# Altium schematic symbol library SamacSys.SchLib: 63 symbols
Pins are listed as number, name and electrical type; pins without a type are passive.

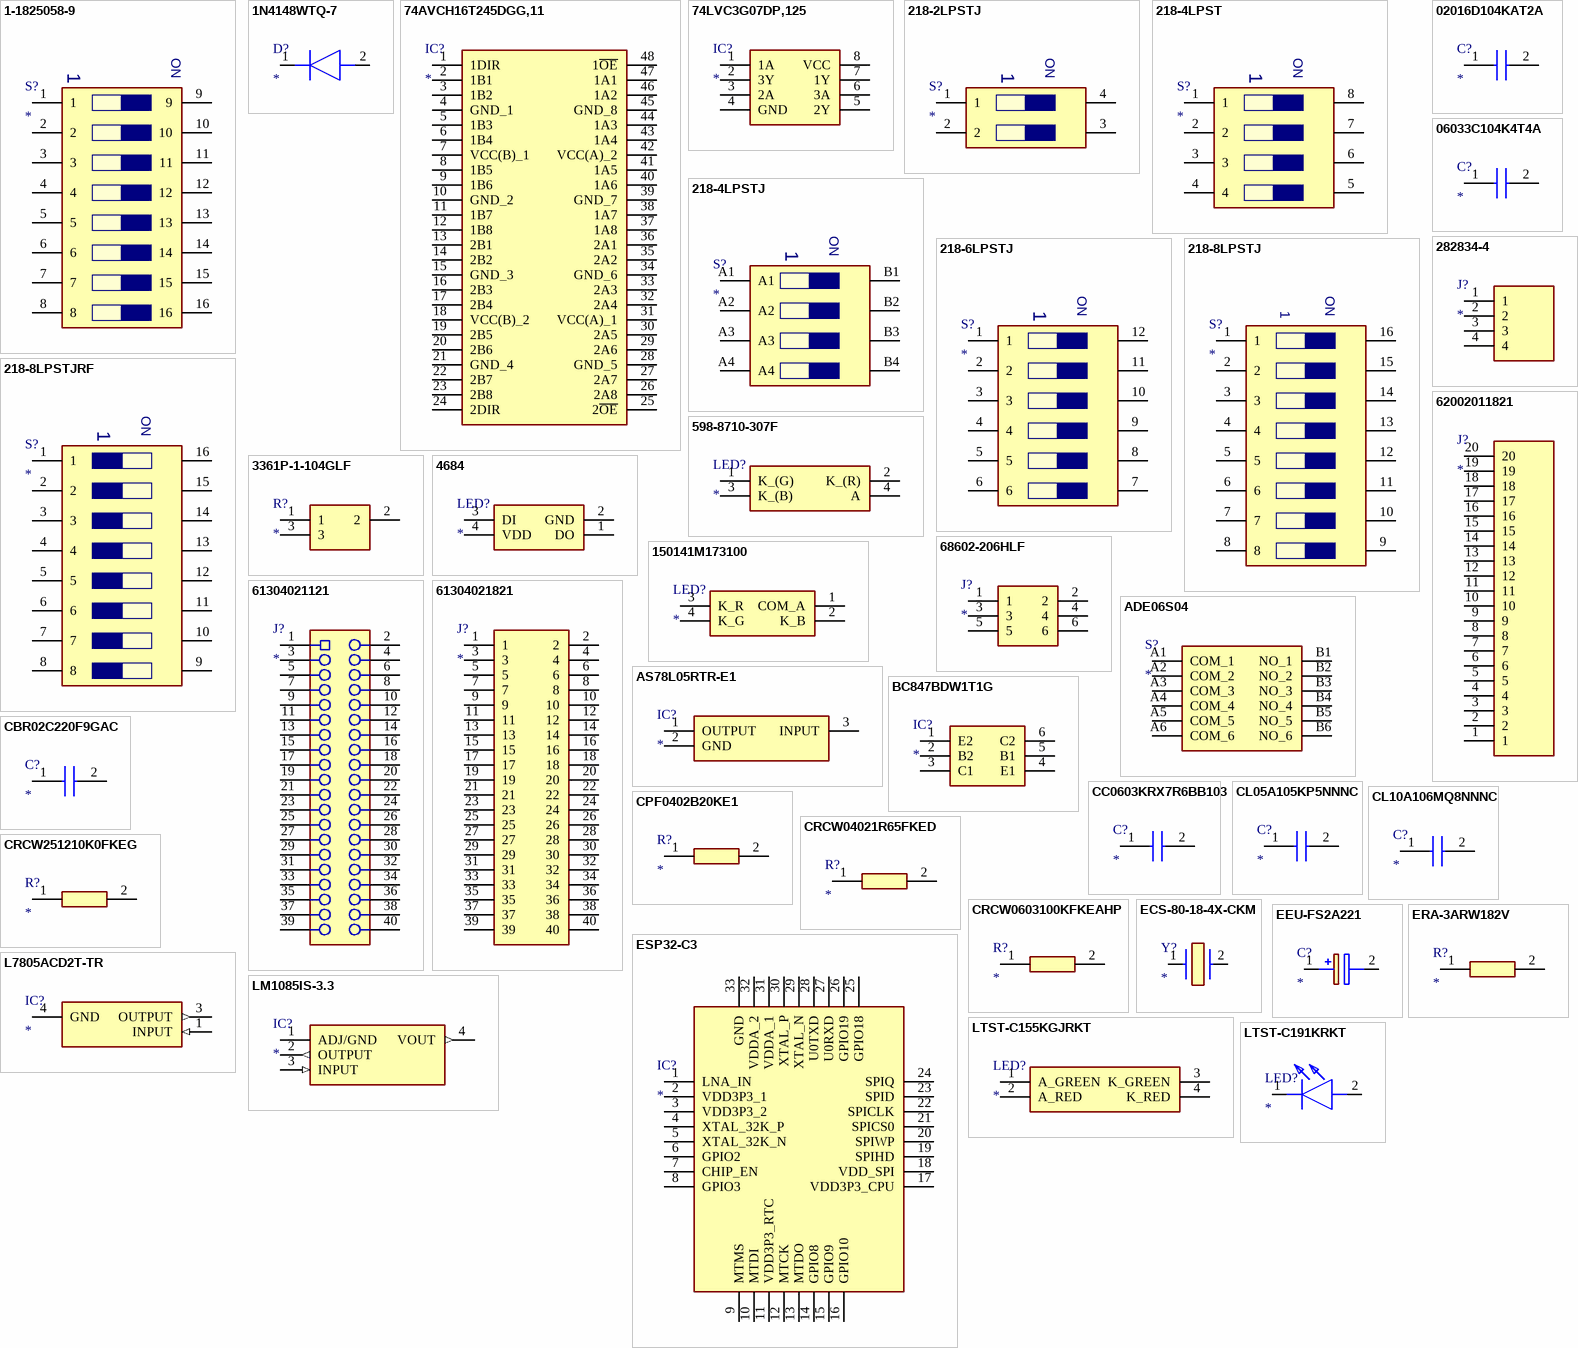
[diagram p0: symbols 1-1825058-9 to LTST-C191KRKT]

## 1-1825058-9
designator S?
Switch; Manufacturer_Name: TE Connectivity; Manufacturer_Part_Number: 1-1825058-9; Datasheet Link: http://www.te.com/commerce/DocumentDelivery/DDEController?Action=showdoc&DocId=Customer+Drawing%7F1825058%7FS4%7Fpdf%7FEnglish%7FENG_CD_1825058_S4.pdf%7F1-1825058-9; Height: 3mm; Arrow Part Number: 1-1825058-9; Arrow Price/Stock: https://www.arrow.com/en/products/1-1825058-9/te-connectivity?region=europe
footprint 118250589
pins: 1, 2, 3, 4, 5, 6, 7, 8, 9, 10, 11, 12, 13, 14, 15, 16
text: ON

## 1N4148WTQ-7
designator D?
Diode; Manufacturer_Name: Diodes Incorporated; Manufacturer_Part_Number: 1N4148WTQ-7; Datasheet Link: https://datasheet.datasheetarchive.com/originals/distributors/Datasheets_SAMA/6cd1b04b95e93ddd69dba57393c402aa.pdf; Height: 0.65mm; Mouser Part Number: 621-1N4148WTQ-7; Mouser Price/Stock: https://www.mouser.co.uk/ProductDetail/Diodes-Incorporated/1N4148WTQ-7?qs=vdQOMtKMWaCrKb90MkA6xQ%3D%3D; Arrow Part Number: 1N4148WTQ-7; Arrow Price/Stock: https://www.arrow.com/en/products/1n4148wtq-7/diodes-incorporated?region=europe
footprint SODFL1608X65N
pins: 1 K, 2 A

## 74AVCH16T245DGG,11
designator IC?
Integrated Circuit; Manufacturer_Name: Nexperia; Manufacturer_Part_Number: 74AVCH16T245DGG,11; Datasheet Link: https://assets.nexperia.com/documents/data-sheet/74AVCH16T245.pdf; Height: 1.2mm; Mouser Part Number: 771-74AVCH16T245DG11; Mouser Price/Stock: https://www.mouser.com/Search/Refine.aspx?Keyword=771-74AVCH16T245DG11
footprint SOP50P810X120-48N
pins: 1 1DIR, 2 1B1, 3 1B2, 4 GND_1, 5 1B3, 6 1B4, 7 VCC(B)_1, 8 1B5, 9 1B6, 10 GND_2, 11 1B7, 12 1B8, 13 2B1, 14 2B2, 15 GND_3, 16 2B3, 17 2B4, 18 VCC(B)_2, 19 2B5, 20 2B6, 21 GND_4, 22 2B7, 23 2B8, 24 2DIR, 25 2~{OE}, 26 2A8, 27 2A7, 28 GND_5, 29 2A6, 30 2A5, 31 VCC(A)_1, 32 2A4, 33 2A3, 34 GND_6, 35 2A2, 36 2A1, 37 1A8, 38 1A7, 39 GND_7, 40 1A6, 41 1A5, 42 VCC(A)_2, 43 1A4, 44 1A3, 45 GND_8, 46 1A2, 47 1A1, 48 1~{OE}

## 74LVC3G07DP,125
designator IC?
Integrated Circuit; Manufacturer_Name: Nexperia; Manufacturer_Part_Number: 74LVC3G07DP,125; Datasheet Link: https://assets.nexperia.com/documents/data-sheet/74LVC3G07.pdf; Height: 1.1mm; Mouser Part Number: 771-74LVC3G07DP-G; Mouser Price/Stock: https://www.mouser.co.uk/ProductDetail/Nexperia/74LVC3G07DP125?qs=me8TqzrmIYXM25jpSFl3Hg%3D%3D; Arrow Part Number: 74LVC3G07DP,125; Arrow Price/Stock: https://www.arrow.com/en/products/74lvc3g07dp125/nexperia?region=nac
footprint SOP65P400X110-8N
pins: 1 1A, 2 3Y, 3 2A, 4 GND, 5 2Y, 6 3A, 7 1Y, 8 VCC

## 218-2LPSTJ
designator S?
Switch; Manufacturer_Name: CTS; Manufacturer_Part_Number: 218-2LPSTJ; Datasheet Link: https://www.ctscorp.com/wp-content/uploads/218.pdf; Height: 2.7mm; Mouser Part Number: 774-2182LPSTJ; Mouser Price/Stock: https://www.mouser.co.uk/ProductDetail/CTS-Electronic-Components/218-2LPSTJ?qs=qNzHFtQhdJ8h31nbRNBSWA%3D%3D; Arrow Part Number: 218-2LPSTJ; Arrow Price/Stock: https://www.arrow.com/en/products/218-2lpstj/cts
footprint 2182LPSTJ
pins: 1, 2, 3, 4
text: ON

## 218-4LPST
designator S?
Switch; Manufacturer_Name: CTS; Manufacturer_Part_Number: 218-4LPST; Datasheet Link: https://www.ctscorp.com/wp-content/uploads/218.pdf; Height: 2.65mm; Mouser Part Number: 774-2184LPST; Mouser Price/Stock: https://www.mouser.co.uk/ProductDetail/CTS-Electronic-Components/218-4LPST?qs=qNzHFtQhdJ%252BULzIpw6MWbA%3D%3D; Arrow Part Number: 218-4LPST; Arrow Price/Stock: https://www.arrow.com/en/products/218-4lpst/cts
footprint SOIC127P844X265-8N
pins: 1, 2, 3, 4, 5, 6, 7, 8
text: ON

## 218-4LPSTJ
designator S?
Switch; Manufacturer_Name: CTS; Manufacturer_Part_Number: 218-4LPSTJ; Datasheet Link: https://www.ctscorp.com/wp-content/uploads/218.pdf; Height: 2.7mm; Mouser Part Number: 774-218-4LPSTJ; Mouser Price/Stock: https://www.mouser.co.uk/ProductDetail/CTS-Electronic-Components/218-4LPSTJ?qs=qNzHFtQhdJ%2Frpuf7cnHHWA%3D%3D; Arrow Part Number: 218-4LPSTJ; Arrow Price/Stock: https://www.arrow.com/en/products/218-4lpstj/cts
footprint 2184LPSTJ
pins: A1, A2, A3, A4, B1, B2, B3, B4
text: ON; 1

## 218-6LPSTJ
designator S?
Switch; Manufacturer_Name: CTS; Manufacturer_Part_Number: 218-6LPSTJ; Datasheet Link: https://www.ctscorp.com/wp-content/uploads/218.pdf; Height: 2.7mm; Mouser Part Number: 774-2186LPSTJ; Mouser Price/Stock: https://www.mouser.co.uk/ProductDetail/CTS-Electronic-Components/218-6LPSTJ?qs=hDoPxpGr7lflvoQJzlrOfA%3D%3D; Arrow Part Number: 218-6LPSTJ; Arrow Price/Stock: https://www.arrow.com/en/products/218-6lpstj/cts
footprint 2186LPSTJ
pins: 1, 2, 3, 4, 5, 6, 7, 8, 9, 10, 11, 12
text: ON

## 218-8LPSTJ
designator S?
Switch; Manufacturer_Name: CTS; Manufacturer_Part_Number: 218-8LPSTJ; Datasheet Link: https://www.ctscorp.com/wp-content/uploads/218.pdf; Height: 2.7mm; Mouser Part Number: 774-2188LPSTJ; Mouser Price/Stock: https://www.mouser.co.uk/ProductDetail/CTS-Electronic-Components/218-8LPSTJ?qs=hDoPxpGr7lfoBDyeqUpd9g%3D%3D; Arrow Part Number: 218-8LPSTJ; Arrow Price/Stock: https://www.arrow.com/en/products/218-8lpstj/cts
footprint 2188LPSTJ
pins: 1, 2, 3, 4, 5, 6, 7, 8, 9, 10, 11, 12, 13, 14, 15, 16
text: ON

## 218-8LPSTJRF
designator S?
Switch; Manufacturer_Name: CTS; Manufacturer_Part_Number: 218-8LPSTJ; Datasheet Link: https://www.ctscorp.com/wp-content/uploads/218.pdf; Height: 2.7mm; Mouser Part Number: 774-2188LPSTJ; Mouser Price/Stock: https://www.mouser.co.uk/ProductDetail/CTS-Electronic-Components/218-8LPSTJ?qs=hDoPxpGr7lfoBDyeqUpd9g%3D%3D; Arrow Part Number: 218-8LPSTJ; Arrow Price/Stock: https://www.arrow.com/en/products/218-8lpstj/cts
footprint 2188LPSTJ
pins: 1, 2, 3, 4, 5, 6, 7, 8, 9, 10, 11, 12, 13, 14, 15, 16
text: ON

## 598-8710-307F
designator LED?
LED; Manufacturer_Name: Dialight; Manufacturer_Part_Number: 598-8710-307F; Datasheet Link: https://componentsearchengine.com/Datasheets/1/598-8710-307F.pdf; Height: 0.7mm; Mouser Part Number: 645-598-8710-307F; Mouser Price/Stock: https://www.mouser.co.uk/ProductDetail/Dialight/598-8710-307F?qs=7JStj%2FjQ2SEVuA2%252BXFDX5Q%3D%3D; Arrow Part Number: 598-8710-307F; Arrow Price/Stock: https://www.arrow.com/en/products/598-8710-307f/dialight
footprint 5988710307F
pins: 1 K_(G), 2 K_(R), 3 K_(B), 4 A

## 02016D104KAT2A
designator C?
Capacitor; Manufacturer_Name: Kyocera AVX; Manufacturer_Part_Number: 02016D104KAT2A; Datasheet Link: http://www.mouser.com/catalog/supplier/library/pdf/AVXSurfaceMountCeramic.pdf; Height: 0.33mm; Mouser Part Number: 581-02016D104KAT2A; Mouser Price/Stock: https://www.mouser.co.uk/ProductDetail/AVX/02016D104KAT2A?qs=PN7sAUOUrntlfwxbZzo6OQ%3D%3D; Arrow Part Number: 02016D104KAT2A; Arrow Price/Stock: https://www.arrow.com/en/products/02016d104kat2a/avx?region=europe
footprint CAPC0603X33N
pins: 1, 2

## 3361P-1-104GLF
designator R?
Resistor; Manufacturer_Name: Bourns; Manufacturer_Part_Number: 3361P-1-104GLF; Datasheet Link: http://www.farnell.com/datasheets/1846252.pdf; Mouser Part Number: 652-3361P-1-104GLF; Mouser Price/Stock: https://www.mouser.co.uk/ProductDetail/Bourns/3361P-1-104GLF?qs=6dLjGpWcMUUsyFm0ilzttQ%3D%3D; Arrow Part Number: 3361P-1-104GLF; Arrow Price/Stock: https://www.arrow.com/en/products/3361p-1-104glf/bourns?region=nac
footprint 3361P_1
pins: 1, 2, 3

## 4684
designator LED?
LED; Manufacturer_Name: Adafruit; Manufacturer_Part_Number: 4684; Datasheet Link: https://cdn-shop.adafruit.com/product-files/4684/4684_WS2812B-2020_V1.3_EN.pdf; Height: 0.84mm; Mouser Part Number: 485-4684; Mouser Price/Stock: https://www.mouser.co.uk/ProductDetail/Adafruit/4684?qs=DPoM0jnrROWIv9%2FMCIm5vw%3D%3D; Arrow Part Number: 4684; Arrow Price/Stock: https://www.arrow.com/en/products/4684/adafruit-industries?region=nac
footprint 4684
pins: 1 DO, 2 GND, 3 DI, 4 VDD

## 06033C104K4T4A
designator C?
Capacitor; Manufacturer_Name: Kyocera AVX; Manufacturer_Part_Number: 06033C104K4T4A; Datasheet Link: https://componentsearchengine.com/Datasheets/1/06031A100FAT2A.pdf; Height: 0.9mm; Mouser Part Number: 581-06033C104K4T4A; Mouser Price/Stock: https://www.mouser.co.uk/ProductDetail/AVX/06033C104K4T4A/?qs=614pG937DPAFgTgznm85Tw%3D%3D; Arrow Part Number: 06033C104K4T4A; Arrow Price/Stock: https://www.arrow.com/en/products/06033c104k4t4a/avx
footprint CAPC1608X90N
pins: 1, 2

## 68602-206HLF
designator J?
Connector; Manufacturer_Name: Amphenol Communications Solutions; Manufacturer_Part_Number: 68602-206HLF; Datasheet Link: https://cdn.amphenol-cs.com/media/wysiwyg/files/drawing/67996.pdf; Height: 8.58mm
footprint 68602206HLF
pins: 1, 2, 3, 4, 5, 6

## 150141M173100
designator LED?
LED; Manufacturer_Name: Wurth Elektronik; Manufacturer_Part_Number: 150141M173100; Datasheet Link: https://www.mouser.de/datasheet/2/445/150141M173100-1714646.pdf; Height: 2.1mm; Mouser Part Number: 710-150141M173100; Mouser Price/Stock: https://www.mouser.co.uk/ProductDetail/Wurth-Elektronik/150141M173100?qs=2kOmHSv6VfT%2Fmnpysgc7Ng%3D%3D
footprint 150141M173100
pins: 1 COM_A, 2 K_B, 3 K_R, 4 K_G

## 282834-4
designator J?
Connector; Manufacturer_Name: TE Connectivity; Manufacturer_Part_Number: 282834-4; Datasheet Link: https://www.te.com/commerce/DocumentDelivery/DDEController?Action=srchrtrv&DocNm=1-1773458-1_EURO_STYLE_QRG&DocType=Data%20Sheet&DocLang=English&PartCntxt=282834-4&DocFormat=pdf; Height: 10.3mm; Mouser Part Number: 571-282834-4; Mouser Price/Stock: https://www.mouser.co.uk/ProductDetail/TE-Connectivity/282834-4?qs=A%252Bip%252BNCYi6Pqom9P%2FaHyRQ%3D%3D; Arrow Part Number: 282834-4; Arrow Price/Stock: https://www.arrow.com/en/products/282834-4/te-connectivity?region=europe
footprint 2828344
pins: 1, 2, 3, 4

## 61304021121
designator J?
Connector; Manufacturer_Name: Wurth Elektronik; Manufacturer_Part_Number: 61304021121; Datasheet Link: https://katalog.we-online.com/em/datasheet/6130xx21121.pdf; Height: 8.69mm; Mouser Part Number: 710-61304021121; Mouser Price/Stock: https://www.mouser.co.uk/ProductDetail/Wurth-Elektronik/61304021121?qs=PhR8RmCirEYWKI5WqdDUyg%3D%3D
footprint HDRV40W64P254X254_2X20_5080X508X869P
pins: 1, 2, 3, 4, 5, 6, 7, 8, 9, 10, 11, 12, 13, 14, 15, 16, 17, 18, 19, 20, 21, 22, 23, 24, 25, 26, 27, 28, 29, 30, 31, 32, 33, 34, 35, 36, 37, 38, 39, 40

## 61304021821
designator J?
Connector; Manufacturer_Name: Wurth Elektronik; Manufacturer_Part_Number: 61304021821; Datasheet Link: https://componentsearchengine.com/Datasheets/1/61304021821.pdf; Height: 8.6mm; Mouser Part Number: 710-61304021821; Mouser Price/Stock: https://www.mouser.co.uk/ProductDetail/Wurth-Elektronik/61304021821?qs=bZr6mbWTK5mzEvTTGhcEyQ%3D%3D
footprint RHDR40W97P254X254_2X20_5130X508X860P
pins: 1, 2, 3, 4, 5, 6, 7, 8, 9, 10, 11, 12, 13, 14, 15, 16, 17, 18, 19, 20, 21, 22, 23, 24, 25, 26, 27, 28, 29, 30, 31, 32, 33, 34, 35, 36, 37, 38, 39, 40

## 62002011821
designator J?
Connector; Manufacturer_Name: Wurth Elektronik; Manufacturer_Part_Number: 62002011821; Datasheet Link: https://www.we-online.com/components/products/datasheet/62002011821.pdf; Height: 4.55mm; Mouser Part Number: 710-62002011821; Mouser Price/Stock: https://www.mouser.co.uk/ProductDetail/Wurth-Elektronik/62002011821?qs=7D1LtPJG0i1FDWD%2FgiqVPA%3D%3D
footprint 62002011821
pins: 1, 2, 3, 4, 5, 6, 7, 8, 9, 10, 11, 12, 13, 14, 15, 16, 17, 18, 19, 20

## ADE06S04
designator S?
Switch; Manufacturer_Name: TE Connectivity; Manufacturer_Part_Number: ADE06S04; Datasheet Link: https://www.te.com/commerce/DocumentDelivery/DDEController?Action=showdoc&DocId=Customer+Drawing%7F1825058%7FT1%7Fpdf%7FEnglish%7FENG_CD_1825058_T1.pdf%7F1-1825058-3; Height: 5.8mm; Mouser Part Number: 506-ADE06S04; Mouser Price/Stock: https://www.mouser.com/Search/Refine.aspx?Keyword=506-ADE06S04; Arrow Part Number: ADE06S04; Arrow Price/Stock: https://www.arrow.com/en/products/ade06s04/te-connectivity
footprint ADE06S04
pins: A1 COM_1, A2 COM_2, A3 COM_3, A4 COM_4, A5 COM_5, A6 COM_6, B1 NO_1, B2 NO_2, B3 NO_3, B4 NO_4, B5 NO_5, B6 NO_6

## AS78L05RTR-E1
designator IC?
Integrated Circuit; Manufacturer_Name: Diodes Inc.; Manufacturer_Part_Number: AS78L05RTR-E1; Datasheet Link: https://www.diodes.com/assets/Datasheets/AS78Lxx.pdf; Mouser Part Number: 621-AS78L05RTR-E1; Mouser Price/Stock: https://www.mouser.co.uk/ProductDetail/Diodes-Incorporated/AS78L05RTR-E1?qs=FKu9oBikfSksfBIasZ7FtQ%3D%3D; Arrow Part Number: AS78L05RTR-E1; Arrow Price/Stock: https://www.arrow.com/en/products/as78l05rtr-e1/diodes-incorporated?region=nac
footprint DIODES_SOT-89
pins: 1 OUTPUT, 2 GND, 3 INPUT

## BC847BDW1T1G
designator IC?
Integrated Circuit; Manufacturer_Name: onsemi; Manufacturer_Part_Number: BC847BDW1T1G; Datasheet Link: http://www.onsemi.com/pub/Collateral/BC846BDW1T1-D.PDF; Height: 1.1mm; Mouser Part Number: 863-BC847BDW1T1G; Mouser Price/Stock: https://www.mouser.co.uk/ProductDetail/onsemi/BC847BDW1T1G?qs=vNc2DXHODiJIIkxW3oEo4A%3D%3D; Arrow Part Number: BC847BDW1T1G; Arrow Price/Stock: https://www.arrow.com/en/products/bc847bdw1t1g/on-semiconductor?region=europe
footprint SOT65P210X110-6N
pins: 1 E2, 2 B2, 3 C1, 4 E1, 5 B1, 6 C2

## CBR02C220F9GAC
designator C?
Capacitor; Manufacturer_Name: KEMET; Manufacturer_Part_Number: CBR02C220F9GAC; Datasheet Link: http://www.kemet.com/Lists/ProductCatalog/Attachments/490/KEM_C1030_CBR_SMD.pdf; Height: 0.33mm; Mouser Part Number: 80-CBR02C220F9G; Mouser Price/Stock: https://www.mouser.co.uk/ProductDetail/KEMET/CBR02C220F9GAC?qs=XxWtqqdu%2F9E54CLd2Dm1tw%3D%3D; Arrow Part Number: CBR02C220F9GAC; Arrow Price/Stock: https://www.arrow.com/en/products/cbr02c220f9gac/kemet-corporation
footprint CAPC0603X33N
pins: 1, 2

## CC0603KRX7R6BB103
designator C?
Capacitor; Manufacturer_Name: KEMET; Manufacturer_Part_Number: CC0603KRX7R6BB103; Datasheet Link: https://mouser.componentsearchengine.com/Datasheets/1/CC0603KRX7R6BB103.pdf; Height: 0.9mm; Mouser Part Number: 603-CC603KRX7R6BB103; Mouser Price/Stock: https://www.mouser.co.uk/ProductDetail/YAGEO/CC0603KRX7R6BB103?qs=Jp%252B3Pqv7Js0lWCO1g7PSqg%3D%3D; Arrow Part Number: CC0603KRX7R6BB103; Arrow Price/Stock: https://www.arrow.com/en/products/cc0603krx7r6bb103/yageo?region=nac
footprint CAPC1608X90N
pins: 1, 2

## CL05A105KP5NNNC
designator C?
Capacitor; Manufacturer_Name: SAMSUNG; Manufacturer_Part_Number: CL05A105KP5NNNC; Datasheet Link: https://www.arrow.com/en/products/cl05a105kp5nnnc/samsung-electro-mechanics; Height: 0.55mm; Mouser Part Number: 187-CL05A105KP5NNNC; Mouser Price/Stock: https://www.mouser.co.uk/ProductDetail/Samsung-Electro-Mechanics/CL05A105KP5NNNC?qs=X6jEic%2FHinBsUeNeR9HD7w%3D%3D; Arrow Part Number: CL05A105KP5NNNC; Arrow Price/Stock: https://www.arrow.com/en/products/cl05a105kp5nnnc/samsung-electro-mechanics?region=nac
footprint CAPC1005X55N
pins: 1, 2

## CL10A106MQ8NNNC
designator C?
Capacitor; Manufacturer_Name: SAMSUNG; Manufacturer_Part_Number: CL10A106MQ8NNNC; Datasheet Link: http://uk.rs-online.com/web/p/products/7664718; Height: 0.9mm; Mouser Part Number: 187-CL10A106MQ8NNNC; Mouser Price/Stock: https://www.mouser.co.uk/ProductDetail/Samsung-Electro-Mechanics/CL10A106MQ8NNNC?qs=349EhDEZ59qlB6a%2FjjeGAg%3D%3D; Arrow Part Number: CL10A106MQ8NNNC; Arrow Price/Stock: https://www.arrow.com/en/products/cl10a106mq8nnnc/samsung-electro-mechanics?region=europe
footprint CAPC1608X90N
pins: 1, 2

## CPF0402B20KE1
designator R?
Resistor; Manufacturer_Name: TE Connectivity; Manufacturer_Part_Number: CPF0402B20KE1; Datasheet Link: https://www.te.com/commerce/DocumentDelivery/DDEController?Action=srchrtrv&DocNm=8-1773459-4_ELEVATOR_ESCALATOR_SOLUTIONS&DocType=Data%20Sheet&DocLang=English&PartCntxt=8-1879208-0&DocFormat=pdf; Height: 0.35mm; Mouser Part Number: 279-CPF0402B20KE1; Mouser Price/Stock: https://www.mouser.com/Search/Refine.aspx?Keyword=279-CPF0402B20KE1; Arrow Part Number: CPF0402B20KE1; Arrow Price/Stock: https://www.arrow.com/en/products/cpf0402b20ke1/te-connectivity
footprint RESC1005X35N
pins: 1, 2

## CRCW04021R65FKED
designator R?
Resistor; Manufacturer_Name: Vishay; Manufacturer_Part_Number: CRCW04021R65FKED; Datasheet Link: http://www.vishay.com/docs/20035/dcrcwe3.pdf; Height: 0.4mm; Mouser Part Number: 71-CRCW04021R65FKED; Mouser Price/Stock: https://www.mouser.co.uk/ProductDetail/Vishay-Dale/CRCW04021R65FKED?qs=6S5Watp5UnI10KqDFh4G%2FA%3D%3D
footprint RESC1005X40N
pins: 1, 2

## CRCW251210K0FKEG
designator R?
Resistor; Manufacturer_Name: Vishay; Manufacturer_Part_Number: CRCW251210K0FKEG; Datasheet Link: http://www.vishay.com/docs/20035/dcrcwe3.pdf; Height: 0.7mm; Mouser Part Number: 71-CRCW2512-10K-E3; Mouser Price/Stock: https://www.mouser.co.uk/ProductDetail/Vishay-Dale/CRCW251210K0FKEG?qs=VTHkDwr%2FZpmwyghf7JbYhA%3D%3D; Arrow Part Number: CRCW251210K0FKEG; Arrow Price/Stock: https://www.arrow.com/en/products/crcw251210k0fkeg/vishay
footprint RESC6332X70N
pins: 1, 2

## CRCW0603100KFKEAHP
designator R?
Resistor; Manufacturer_Name: Vishay; Manufacturer_Part_Number: CRCW0603100KFKEAHP; Datasheet Link: http://uk.rs-online.com/web/p/products/1823583; Height: 0.55mm; Mouser Part Number: 71-CRCW0603100KFKEAH; Mouser Price/Stock: https://www.mouser.co.uk/ProductDetail/Vishay-Dale/CRCW0603100KFKEAHP?qs=niDbCuOAQ0Uxys8g4tQWNQ%3D%3D; Arrow Part Number: CRCW0603100KFKEAHP; Arrow Price/Stock: https://www.arrow.com/en/products/crcw0603100kfkeahp/vishay?region=nac
footprint RESC1608X55N
pins: 1, 2

## ECS-80-18-4X-CKM
designator Y?
Crystal or Oscillator; Manufacturer_Name: ECS; Manufacturer_Part_Number: ECS-80-18-4X-CKM; Datasheet Link: https://www.mouser.de/datasheet/2/122/hc-49usx-791.pdf; Height: 3.5mm; Mouser Part Number: 520-ECS-80-18-4X-CKM; Mouser Price/Stock: https://www.mouser.co.uk/ProductDetail/ECS/ECS-80-18-4X-CKM?qs=7MVldsJ5UazWVU6%2F43NmVA%3D%3D; Arrow Part Number: ECS-80-18-4X-CKM; Arrow Price/Stock: https://www.arrow.com/en/products/ecs-80-18-4x-ckm/ecs-international?region=nac
footprint ECS80184XCKM
pins: 1, 2

## EEU-FS2A221
designator C?
Capacitor Polarised; Manufacturer_Name: Panasonic; Manufacturer_Part_Number: EEU-FS2A221; Datasheet Link: http://industrial.panasonic.com/cdbs/www-data/pdf/RDF0000/ABA0000C1255.pdf; Height: 27mm; Mouser Part Number: 667-EEU-FS2A221; Mouser Price/Stock: https://www.mouser.co.uk/ProductDetail/Panasonic/EEU-FS2A221?qs=w%2Fv1CP2dgqpx8zM4l%252B3tVw%3D%3D; Arrow Part Number: EEU-FS2A221; Arrow Price/Stock: https://www.arrow.com/en/products/eeu-fs2a221/panasonic?region=nac
footprint CAPPRD500W65D1250H2700
pins: 1 +, 2 -

## ERA-3ARW182V
designator R?
Resistor; Manufacturer_Name: Panasonic; Manufacturer_Part_Number: ERA-3ARW182V; Datasheet Link: https://industrial.panasonic.com/cdbs/www-data/pdf/RDM0000/AOA0000C307.pdf; Height: 0.55mm
footprint ERA3AEB101V
pins: 1, 2

## ESP32-C3
designator IC?
Integrated Circuit; Manufacturer_Name: Espressif Systems; Manufacturer_Part_Number: ESP32-C3; Datasheet Link: https://www.espressif.com/sites/default/files/documentation/esp32-c3_datasheet_en.pdf; Height: 0.9mm; Mouser Part Number: 356-ESP32-C3; Mouser Price/Stock: https://www.mouser.co.uk/ProductDetail/Espressif-Systems/ESP32-C3?qs=iLbezkQI%252BsiMXe7tMG%252Bo%2FA%3D%3D
footprint QFN50P500X500X90-33N-D
pins: 1 LNA_IN, 2 VDD3P3_1, 3 VDD3P3_2, 4 XTAL_32K_P, 5 XTAL_32K_N, 6 GPIO2, 7 CHIP_EN, 8 GPIO3, 9 MTMS, 10 MTDI, 11 VDD3P3_RTC, 12 MTCK, 13 MTDO, 14 GPIO8, 15 GPIO9, 16 GPIO10, 17 VDD3P3_CPU, 18 VDD_SPI, 19 SPIHD, 20 SPIWP, 21 SPICS0, 22 SPICLK, 23 SPID, 24 SPIQ, 25 GPIO18, 26 GPIO19, 27 U0RXD, 28 U0TXD, 29 XTAL_N, 30 XTAL_P, 31 VDDA_1, 32 VDDA_2, 33 GND

## L7805ACD2T-TR
designator IC?
Integrated Circuit; Manufacturer_Name: STMicroelectronics; Manufacturer_Part_Number: L7805ACD2T-TR; Datasheet Link: http://www.st.com/web/en/resource/technical/document/datasheet/CD00000444.pdf; Mouser Part Number: 511-L7805ACD2T-TR; Mouser Price/Stock: https://www.mouser.co.uk/ProductDetail/STMicroelectronics/L7805ACD2T-TR?qs=Ctxo64yJVFuOLXlPPZdJUQ%3D%3D; Arrow Part Number: L7805ACD2T-TR; Arrow Price/Stock: https://www.arrow.com/en/products/l7805acd2t-tr/stmicroelectronics?region=europe
footprint D2PAK-STB35NF10T4
pins: 1 INPUT (in), 3 OUTPUT (out), 4 GND (power)

## LM1085IS-3.3
designator IC?
Integrated Circuit; Manufacturer_Name: Texas Instruments; Manufacturer_Part_Number: LM1085IS-3.3; Datasheet Link: http://www.ti.com/lit/ds/symlink/lm1085.pdf; Height: 4.64mm; Mouser Part Number: 926-LM1085IS-33; Mouser Price/Stock: https://www.mouser.co.uk/ProductDetail/Texas-Instruments/LM1085IS-3.3?qs=X1J7HmVL2ZEDjTmMMF7TRQ%3D%3D; Arrow Part Number: LM1085IS-3.3; Arrow Price/Stock: https://www.arrow.com/en/products/lm1085is-3.3/texas-instruments?region=nac
footprint TO254P1435X464-4N
pins: 1 ADJ/GND (power), 2 OUTPUT (out), 3 INPUT (in), 4 VOUT (out)

## LTST-C155KGJRKT
designator LED?
LED; Manufacturer_Name: Lite-On; Manufacturer_Part_Number: LTST-C155KGJRKT; Datasheet Link: http://optoelectronics.liteon.com/upload/download/ds22-2001-038/ltst-c155kgjrkt.pdf; Height: 1.2mm; Mouser Part Number: 859-LTST-C155KGJRKT; Mouser Price/Stock: https://www.mouser.co.uk/ProductDetail/Lite-On/LTST-C155KGJRKT?qs=NX60fPSeIfhjk3E6PFVC%2Fw%3D%3D; Arrow Part Number: LTST-C155KGJRKT; Arrow Price/Stock: https://www.arrow.com/en/products/ltst-c155kgjrkt/lite-on-technology?region=nac
footprint LTSTC155KGJRKT
pins: 1 A_GREEN, 2 A_RED, 3 K_GREEN, 4 K_RED

## LTST-C191KRKT
designator LED?
LED; Manufacturer_Name: Lite-On; Manufacturer_Part_Number: LTST-C191KRKT; Datasheet Link: http://www.mouser.com/ds/2/239/S_110_LTST-C191KRKT-539838.pdf; Height: 0.55mm; Mouser Part Number: 859-LTST-C191KRKT; Mouser Price/Stock: https://www.mouser.co.uk/ProductDetail/Lite-On/LTST-C191KRKT?qs=BAIUz4Y8PJBLfOhzue0q%252BA%3D%3D; Arrow Part Number: LTST-C191KRKT; Arrow Price/Stock: https://www.arrow.com/en/products/ltst-c191krkt/lite-on-technology?region=nac
footprint LEDC1608X55N
pins: 1 K, 2 A

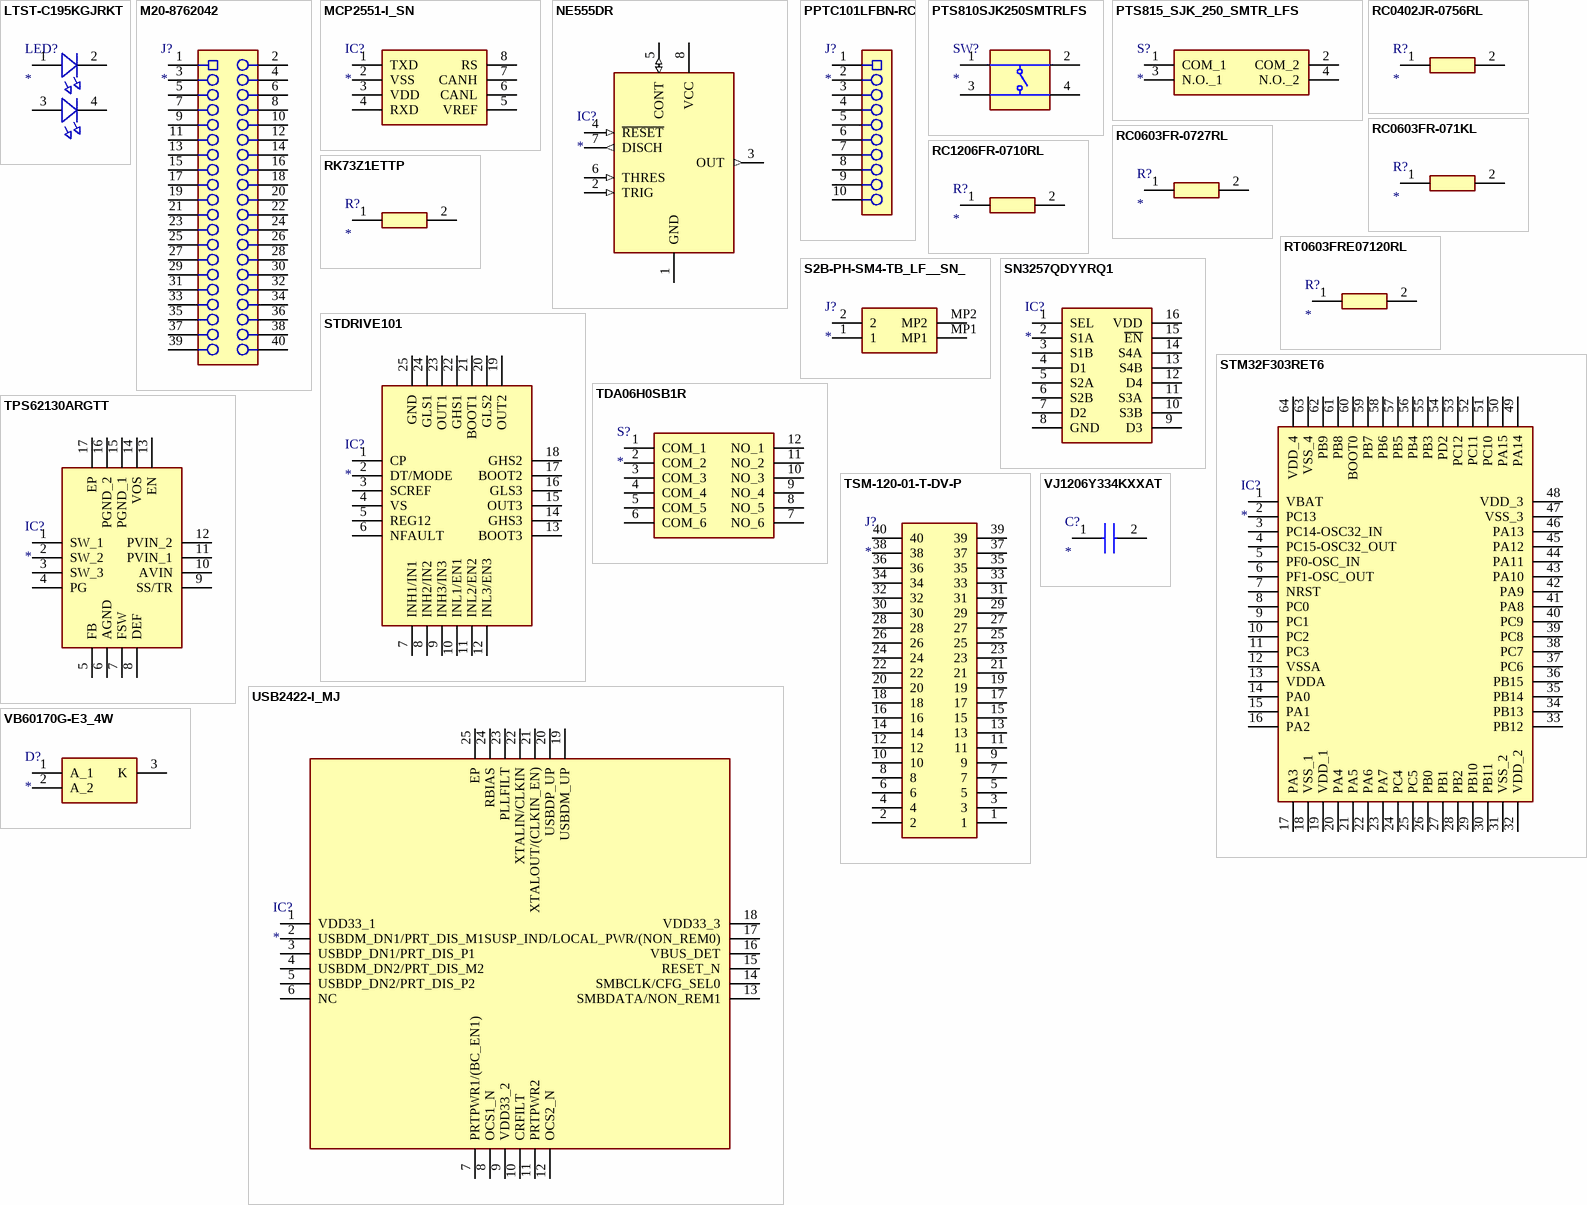
[diagram p1: symbols LTST-C195KGJRKT to VJ1206Y334KXXAT]

## LTST-C195KGJRKT
designator LED?
LED; Manufacturer_Name: Lite-On; Manufacturer_Part_Number: LTST-C195KGJRKT; Datasheet Link: https://mm.digikey.com/Volume0/opasdata/d220001/medias/docus/1134/LTST-C195KGJRKT.pdf; Height: 0.65mm; Mouser Part Number: 859-LTST-C195KGJRKT; Mouser Price/Stock: https://www.mouser.co.uk/ProductDetail/Lite-On/LTST-C195KGJRKT?qs=ohURClPaJWCkP7ius%252BRMYA%3D%3D; Arrow Part Number: LTST-C195KGJRKT; Arrow Price/Stock: https://www.arrow.com/en/products/ltst-c195kgjrkt/lite-on-technology?region=nac
footprint LTSTC195KGJRKT
pins: 1 A_1, 2 A_2, 3 K_GREEN_, 4 K_RED

## M20-8762042
designator J?
Connector; Manufacturer_Name: Harwin; Manufacturer_Part_Number: M20-8762042; Datasheet Link: https://cdn.harwin.com/pdfs/M20-876.pdf; Height: 10.01mm; Mouser Part Number: 855-M20-8762042; Mouser Price/Stock: https://www.mouser.co.uk/ProductDetail/Harwin/M20-8762042?qs=vF78I%252BjhbY%2F5WnwPzhFszw%3D%3D
footprint M208762042
pins: 1, 2, 3, 4, 5, 6, 7, 8, 9, 10, 11, 12, 13, 14, 15, 16, 17, 18, 19, 20, 21, 22, 23, 24, 25, 26, 27, 28, 29, 30, 31, 32, 33, 34, 35, 36, 37, 38, 39, 40

## MCP2551-I_SN
designator IC?
Integrated Circuit; Manufacturer_Name: Microchip; Manufacturer_Part_Number: MCP2551-I/SN; Datasheet Link: https://datasheet.datasheetarchive.com/originals/distributors/Datasheets-34/DSA-674994.pdf; Height: 1.75mm; Mouser Part Number: 579-MCP2551-I/SN; Mouser Price/Stock: https://www.mouser.co.uk/ProductDetail/Microchip-Technology/MCP2551-I-SN?qs=9y3LFqDLL8L5zFfqqxdOHg%3D%3D; Arrow Part Number: MCP2551-I/SN; Arrow Price/Stock: https://www.arrow.com/en/products/mcp2551-isn/microchip-technology?region=nac
footprint SOIC127P600X175-8N
pins: 1 TXD, 2 VSS, 3 VDD, 4 RXD, 5 VREF, 6 CANL, 7 CANH, 8 RS

## NE555DR
designator IC?
Integrated Circuit; Manufacturer_Name: Texas Instruments; Manufacturer_Part_Number: NE555DR; Datasheet Link: http://www.ti.com/lit/ds/symlink/ne555.pdf; Height: 1.75mm; Mouser Part Number: 595-NE555DR; Mouser Price/Stock: https://www.mouser.com/Search/Refine.aspx?Keyword=595-NE555DR; RS Part Number: 1218414; RS Price/Stock: http://uk.rs-online.com/web/p/products/1218414
footprint SOIC127P600X175-8N
pins: 1 GND (power), 2 TRIG (in), 3 OUT (out), 4 ~{RESET} (in), 5 CONT (io), 6 THRES (in), 7 DISCH (out), 8 VCC (power)

## PPTC101LFBN-RC
designator J?
Connector; Manufacturer_Name: Sullins; Manufacturer_Part_Number: PPTC101LFBN-RC; Datasheet Link: http://www.sullinscorp.com/drawings/78_P(N)PxCxxxLFBN-RC,_10492-H.pdf; Height: 8.5mm
footprint RHDR10W80P0X254_1X10_2590X254X850P
pins: 1, 2, 3, 4, 5, 6, 7, 8, 9, 10

## PTS810SJK250SMTRLFS
designator SW?
Switch; Manufacturer_Name: C & K COMPONENTS; Manufacturer_Part_Number: PTS810SJK250SMTRLFS; Datasheet Link: https://www.ckswitches.com/media/1476/pts810.pdf; Mouser Part Number: 611-PTS810SJK250SMTR; Mouser Price/Stock: https://www.mouser.co.uk/ProductDetail/CK/PTS810SJK250SMTRLFS?qs=UxeAxwACbqlfHzoZSrW3%2Fw%3D%3D
footprint PTS810SJG250SMTRLFS
pins: 1, 2, 3, 4

## PTS815_SJK_250_SMTR_LFS
designator S?
Switch; Manufacturer_Name: C & K COMPONENTS; Manufacturer_Part_Number: PTS815 SJK 250 SMTR LFS; Datasheet Link: https://www.mouser.com/datasheet/2/60/pts815-1535658.pdf; Height: 2mm; Mouser Part Number: 611-PTS815SJK250SMTR; Mouser Price/Stock: https://www.mouser.co.uk/ProductDetail/CK/PTS815-SJK-250-SMTR-LFS?qs=ahcBuItHZ3yETpGYMHf%2FgQ%3D%3D; Arrow Part Number: PTS815 SJK 250 SMTR LFS; Arrow Price/Stock: https://www.arrow.com/en/products/pts815-sjk-250-smtr-lfs/ck
footprint PTS815SJK250SMTRLFS
pins: 1 COM_1, 2 COM_2, 3 N.O._1, 4 N.O._2

## RC0402JR-0756RL
designator R?
Resistor; Manufacturer_Name: KEMET; Manufacturer_Part_Number: RC0402JR-0756RL; Datasheet Link: http://www.yageo.com/documents/recent/PYu-RC0402_51_RoHS_L_6_r.pdf; Height: 0.4mm; Mouser Part Number: 603-RC0402JR-0756RL; Mouser Price/Stock: http://www.mouser.com/Search/ProductDetail.aspx?qs=uM1JSSdPjOC0kaZnFPxiEA%3d%3d
footprint RESC1005X40N
pins: 1, 2

## RC0603FR-071KL
designator R?
Resistor; Manufacturer_Name: YAGEO; Manufacturer_Part_Number: RC0603FR-071KL; Datasheet Link: https://www.yageo.com/upload/media/product/productsearch/datasheet/rchip/PYu-RC_Group_51_RoHS_L_12.pdf; Height: 0.55mm; Mouser Part Number: 603-RC0603FR-071KL; Mouser Price/Stock: https://www.mouser.co.uk/ProductDetail/YAGEO/RC0603FR-071KL?qs=VU8sRB4EgwApHsk4rF%2F3zg%3D%3D; Arrow Part Number: RC0603FR-071KL; Arrow Price/Stock: https://www.arrow.com/en/products/rc0603fr-071kl/yageo?region=europe
footprint RESC1608X55N
pins: 1, 2

## RC0603FR-0727RL
designator R?
Resistor; Manufacturer_Name: KEMET; Manufacturer_Part_Number: RC0603FR-0727RL; Datasheet Link: http://www.yageo.com/documents/recent/PYu-RC0603_51_RoHS_L_v5.pdf; Height: 0.55mm; Mouser Part Number: 603-RC0603FR-0727RL; Mouser Price/Stock: https://www.mouser.co.uk/ProductDetail/Yageo/RC0603FR-0727RL?qs=diQw95jMAeO47ApX1%252BkY5g%3D%3D; Arrow Part Number: RC0603FR-0727RL; Arrow Price/Stock: https://www.arrow.com/en/products/rc0603fr-0727rl/yageo
footprint RESC1608X55N
pins: 1, 2

## RC1206FR-0710RL
designator R?
Resistor; Manufacturer_Name: KEMET; Manufacturer_Part_Number: RC1206FR-0710RL; Datasheet Link: https://www.sos.sk/productdata/35/10/4/35104/RC1206.pdf; Height: 0.65mm; Mouser Part Number: 603-RC1206FR-0710RL; Mouser Price/Stock: https://www.mouser.co.uk/ProductDetail/YAGEO/RC1206FR-0710RL?qs=%2F8M1ehdqYDBdV11LXpIrWA%3D%3D; Arrow Part Number: RC1206FR-0710RL; Arrow Price/Stock: https://www.arrow.com/en/products/rc1206fr-0710rl/yageo?region=nac
footprint RESC3116X65N
pins: 1, 2

## RK73Z1ETTP
designator R?
Resistor; Manufacturer_Name: KOA Speer; Manufacturer_Part_Number: RK73Z1ETTP; Datasheet Link: https://datasheet.datasheetarchive.com/originals/distributors/SFDatasheet-1/sf-00037722.pdf; Height: 0.4mm; Mouser Part Number: 660-RK73Z1ETTP; Mouser Price/Stock: https://www.mouser.co.uk/ProductDetail/KOA-Speer/RK73Z1ETTP?qs=QVKknyIxNGtw%252BkAE%252BM0u3w%3D%3D; Arrow Part Number: RK73Z1ETTP; Arrow Price/Stock: https://www.arrow.com/en/products/rk73z1ettp/koa-speer-electronics
footprint RESC1005X40N
pins: 1, 2

## RT0603FRE07120RL
designator R?
Resistor; Manufacturer_Name: KEMET; Manufacturer_Part_Number: RT0603FRE07120RL; Datasheet Link: https://componentsearchengine.com/Datasheets/1/RT0603FRE07120RL.pdf; Height: 0.55mm; Mouser Part Number: 603-RT0603FRE07120RL; Mouser Price/Stock: https://www.mouser.co.uk/ProductDetail/YAGEO/RT0603FRE07120RL?qs=%2Ff7pOCXLR5dRafpD2aKZvg%3D%3D
footprint RESC1608X55N
pins: 1, 2

## S2B-PH-SM4-TB_LF__SN_
designator J?
Connector; Manufacturer_Name: JST (JAPAN SOLDERLESS TERMINALS); Manufacturer_Part_Number: S2B-PH-SM4-TB(LF)(SN); Datasheet Link: https://www.jst-mfg.com/product/pdf/eng/ePH.pdf; Height: 6.6mm; Arrow Part Number: S2B-PH-SM4-TB(LF)(SN); Arrow Price/Stock: https://www.arrow.com/en/products/s2b-ph-sm4-tb-lf-sn/jst-manufacturing?region=europe
footprint S2BPHSM4TBLFSN
pins: 1, 2, MP1, MP2

## SN3257QDYYRQ1
designator IC?
Integrated Circuit; Manufacturer_Name: Texas Instruments; Manufacturer_Part_Number: SN3257QDYYRQ1; Datasheet Link: https://www.ti.com/product/SN3257-Q1?keyMatch=SN3257&tisearch=Search-EN-everything&usecase=GPN#design-development; Height: 1.1mm; Mouser Part Number: 595-SN3257QDYYRQ1; Mouser Price/Stock: https://www.mouser.co.uk/ProductDetail/Texas-Instruments/SN3257QDYYRQ1?qs=%252B6g0mu59x7JBBtJ8CeVEsA%3D%3D; Arrow Part Number: SN3257QDYYRQ1; Arrow Price/Stock: https://www.arrow.com/en/products/sn3257qdyyrq1/texas-instruments?region=nac
footprint SOP50P326X110-16N
pins: 1 SEL, 2 S1A, 3 S1B, 4 D1, 5 S2A, 6 S2B, 7 D2, 8 GND, 9 D3, 10 S3B, 11 S3A, 12 D4, 13 S4B, 14 S4A, 15 ~{EN}, 16 VDD

## STDRIVE101
designator IC?
Integrated Circuit; Manufacturer_Name: STMicroelectronics; Manufacturer_Part_Number: STDRIVE101; Datasheet Link: http://www.farnell.com/datasheets/3171272.pdf; Height: 1mm; Mouser Part Number: 511-STDRIVE101; Mouser Price/Stock: https://www.mouser.co.uk/ProductDetail/STMicroelectronics/STDRIVE101?qs=xZ%2FP%252Ba9zWqYdY88AYx%252Blxg%3D%3D; Arrow Part Number: STDRIVE101; Arrow Price/Stock: https://www.arrow.com/en/products/stdrive101/stmicroelectronics?region=nac
footprint QFN50P400X400X100-25N-D
pins: 1 CP, 2 DT/MODE, 3 SCREF, 4 VS, 5 REG12, 6 NFAULT, 7 INH1/IN1, 8 INH2/IN2, 9 INH3/IN3, 10 INL1/EN1, 11 INL2/EN2, 12 INL3/EN3, 13 BOOT3, 14 GHS3, 15 OUT3, 16 GLS3, 17 BOOT2, 18 GHS2, 19 OUT2, 20 GLS2, 21 BOOT1, 22 GHS1, 23 OUT1, 24 GLS1, 25 GND

## STM32F303RET6
designator IC?
Integrated Circuit; Manufacturer_Name: STMicroelectronics; Manufacturer_Part_Number: STM32F303RET6; Datasheet Link: https://www.st.com/resource/en/datasheet/stm32f303re.pdf; Height: 1.6mm; Mouser Part Number: 511-STM32F303RET6; Mouser Price/Stock: https://www.mouser.co.uk/ProductDetail/STMicroelectronics/STM32F303RET6?qs=iEvsikg1EVxqzySz0rz1MQ%3D%3D; Arrow Part Number: STM32F303RET6; Arrow Price/Stock: https://www.arrow.com/en/products/stm32f303ret6/stmicroelectronics?region=nac
footprint QFP50P1200X1200X160-64N
pins: 1 VBAT, 2 PC13, 3 PC14-OSC32_IN, 4 PC15-OSC32_OUT, 5 PF0-OSC_IN, 6 PF1-OSC_OUT, 7 NRST, 8 PC0, 9 PC1, 10 PC2, 11 PC3, 12 VSSA, 13 VDDA, 14 PA0, 15 PA1, 16 PA2, 17 PA3, 18 VSS_1, 19 VDD_1, 20 PA4, 21 PA5, 22 PA6, 23 PA7, 24 PC4, 25 PC5, 26 PB0, 27 PB1, 28 PB2, 29 PB10, 30 PB11, 31 VSS_2, 32 VDD_2, 33 PB12, 34 PB13, 35 PB14, 36 PB15, 37 PC6, 38 PC7, 39 PC8, 40 PC9, 41 PA8, 42 PA9, 43 PA10, 44 PA11, 45 PA12, 46 PA13, 47 VSS_3, 48 VDD_3, 49 PA14, 50 PA15, 51 PC10, 52 PC11, 53 PC12, 54 PD2, 55 PB3, 56 PB4, 57 PB5, 58 PB6, 59 PB7, 60 BOOT0, 61 PB8, 62 PB9, 63 VSS_4, 64 VDD_4

## TDA06H0SB1R
designator S?
Switch; Manufacturer_Name: C & K COMPONENTS; Manufacturer_Part_Number: TDA06H0SB1R; Datasheet Link: https://www.ckswitches.com/media/1328/tda.pdf; Height: 2.3mm; Mouser Part Number: 611-TDA06H0SB1R; Mouser Price/Stock: https://www.mouser.co.uk/ProductDetail/CK/TDA06H0SB1R?qs=%2FNF5U5UGuWkp6rUoQscbxA%3D%3D; Arrow Part Number: TDA06H0SB1R; Arrow Price/Stock: https://www.arrow.com/en/products/tda06h0sb1r/ck?region=nac
footprint TDA06H0SB1R
pins: 1 COM_1, 2 COM_2, 3 COM_3, 4 COM_4, 5 COM_5, 6 COM_6, 7 NO_6, 8 NO_5, 9 NO_4, 10 NO_3, 11 NO_2, 12 NO_1

## TPS62130ARGTT
designator IC?
Integrated Circuit; Manufacturer_Name: Texas Instruments; Manufacturer_Part_Number: TPS62130ARGTT; Datasheet Link: http://www.ti.com/lit/gpn/tps62130a; Height: 1mm; Mouser Part Number: 595-TPS62130ARGTT; Mouser Price/Stock: https://www.mouser.co.uk/ProductDetail/Texas-Instruments/TPS62130ARGTT?qs=iIeLWXrA%252B1WkTqP1kzAmnQ%3D%3D; Arrow Part Number: TPS62130ARGTT; Arrow Price/Stock: https://www.arrow.com/en/products/tps62130argtt/texas-instruments?region=nac
footprint QFN50P300X300X100-17N-D
pins: 1 SW_1, 2 SW_2, 3 SW_3, 4 PG, 5 FB, 6 AGND, 7 FSW, 8 DEF, 9 SS/TR, 10 AVIN, 11 PVIN_1, 12 PVIN_2, 13 EN, 14 VOS, 15 PGND_1, 16 PGND_2, 17 EP

## TSM-120-01-T-DV-P
designator J?
Connector; Manufacturer_Name: SAMTEC; Manufacturer_Part_Number: TSM-120-01-T-DV-P; Datasheet Link: http://suddendocs.samtec.com/prints/tsm-1xx-xx-xxx-xx-x-xxx-x-mkt.pdf; Mouser Part Number: 200-TSM12001TDVP; Mouser Price/Stock: https://www.mouser.co.uk/ProductDetail/Samtec/TSM-120-01-T-DV-P?qs=rU5fayqh%252BE3dKjtEVnZyRg%3D%3D
footprint TSM-120-YY-ZZZ-DV-P
pins: 1, 2, 3, 4, 5, 6, 7, 8, 9, 10, 11, 12, 13, 14, 15, 16, 17, 18, 19, 20, 21, 22, 23, 24, 25, 26, 27, 28, 29, 30, 31, 32, 33, 34, 35, 36, 37, 38, 39, 40

## USB2422-I_MJ
designator IC?
Integrated Circuit; Manufacturer_Name: Microchip; Manufacturer_Part_Number: USB2422-I/MJ; Datasheet Link: https://datasheet.datasheetarchive.com/originals/distributors/DKDS-15/280029.pdf; Height: 1mm; Mouser Part Number: 579-USB2422-I/MJ; Mouser Price/Stock: https://www.mouser.co.uk/ProductDetail/Microchip-Technology-Atmel/USB2422-I-MJ?qs=eTPcRhULBzzm1uvzgv8YJg%3D%3D; Arrow Part Number: USB2422-I/MJ; Arrow Price/Stock: https://www.arrow.com/en/products/usb2422-imj/microchip-technology?region=nac
footprint QFN50P400X400X100-25N-D
pins: 1 VDD33_1, 2 USBDM_DN1/PRT_DIS_M1, 3 USBDP_DN1/PRT_DIS_P1, 4 USBDM_DN2/PRT_DIS_M2, 5 USBDP_DN2/PRT_DIS_P2, 6 NC, 7 PRTPWR1/(BC_EN1), 8 OCS1_N, 9 VDD33_2, 10 CRFILT, 11 PRTPWR2, 12 OCS2_N, 13 SMBDATA/NON_REM1, 14 SMBCLK/CFG_SEL0, 15 RESET_N, 16 VBUS_DET, 17 SUSP_IND/LOCAL_PWR/(NON_REM0), 18 VDD33_3, 19 USBDM_UP, 20 USBDP_UP, 21 XTALOUT/(CLKIN_EN), 22 XTALIN/CLKIN, 23 PLLFILT, 24 RBIAS, 25 EP

## VB60170G-E3_4W
designator D?
Schottky Diode; Manufacturer_Name: Vishay; Manufacturer_Part_Number: VB60170G-E3/4W; Datasheet Link: https://www.mouser.in/datasheet/2/427/vb60170g-1768131.pdf; Height: 5.084mm; Mouser Part Number: 78-VB60170G-E3/4W; Mouser Price/Stock: https://www.mouser.co.uk/ProductDetail/Vishay-General-Semiconductor/VB60170G-E3-4W/?qs=5GMHhjZ3RQwbceNM5GNo%252Bw%3D%3D; Arrow Part Number: VB60170G-E3/4W; Arrow Price/Stock: https://www.arrow.com/en/products/vb60170g-e34w/vishay
footprint VB60170GE34W
pins: 1 A_1, 2 A_2, 3 K

## VJ1206Y334KXXAT
designator C?
Capacitor; Manufacturer_Name: Vishay; Manufacturer_Part_Number: VJ1206Y334KXXAT; Datasheet Link: http://www.vishay.com/docs/45200/vjhirelseries.pdf; Height: 1.7mm; Mouser Part Number: 77-VJ1206Y334KXXAT; Mouser Price/Stock: https://www.mouser.co.uk/ProductDetail/Vishay-Vitramon/VJ1206Y334KXXAT?qs=nEFeQTnlIAZr4no%2FMgTPkw%3D%3D; Arrow Part Number: VJ1206Y334KXXAT; Arrow Price/Stock: https://www.arrow.com/en/products/vj1206y334kxxat/vishay
footprint CAPC3216X170N
pins: 1, 2